# EAGLE library part TRANS_EI33_ (library DSS)
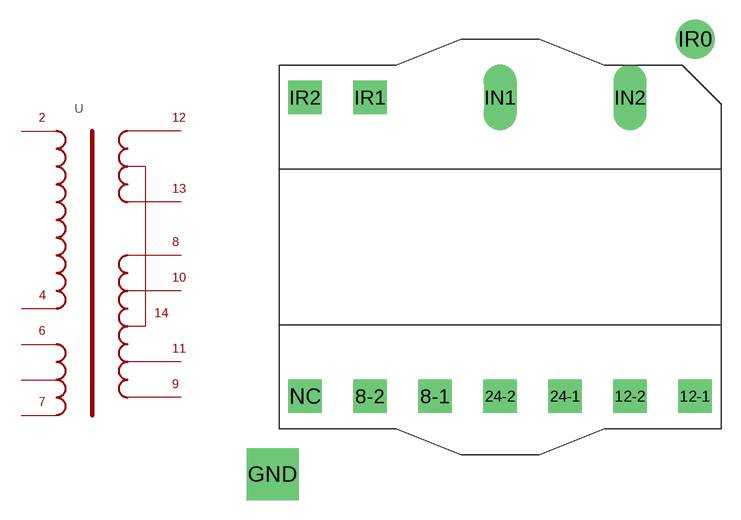
[diagram p16: symbol with the pads of EI33; footprint EI33]

Designator prefix -

## TRANS_EI33_  [EI33]
8-1  8V1
8-2  8V2
12-1  12V2
12-2  12V1
24-1  24V1
24-2  24V2
GND  GND
IN1  IN1
IN2  IN2
IR0  IROUT0
IR1  IROUT1
IR2  IROUT2
NC  GND

## Footprint EI33 (pad centres in mm)
drill 1 pad 2.54 square: 8-1 -5,-11.5; 8-2 -10,-11.5; 12-1 15,-11.5; 12-2 10,-11.5; 24-1 5,-11.5; 24-2 0,-11.5; IR1 -10,11.5; IR2 -15,11.5; NC -15,-11.5
drill 2.5 pad 4 square: GND -17.5,-17.5
drill 1 pad 2.54 long: IN1 0,11.5; IN2 10,11.5
drill 1.5 pad 3: IR0 15,16